# Altium schematic symbol library Schlib1.SchLib: 1 symbol
Pins are listed as number, name and electrical type; pins without a type are passive.

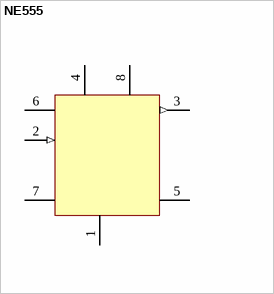
[diagram p0: symbol NE555]

## NE555
designator U?
pins: 1 (power), 2 (in), 3 (out), 4 (power), 5, 6, 7, 8 (power)